# EAGLE library part FM22L16 (library ramtron-2)
NVRAM 256k x 16 or 512k x 8
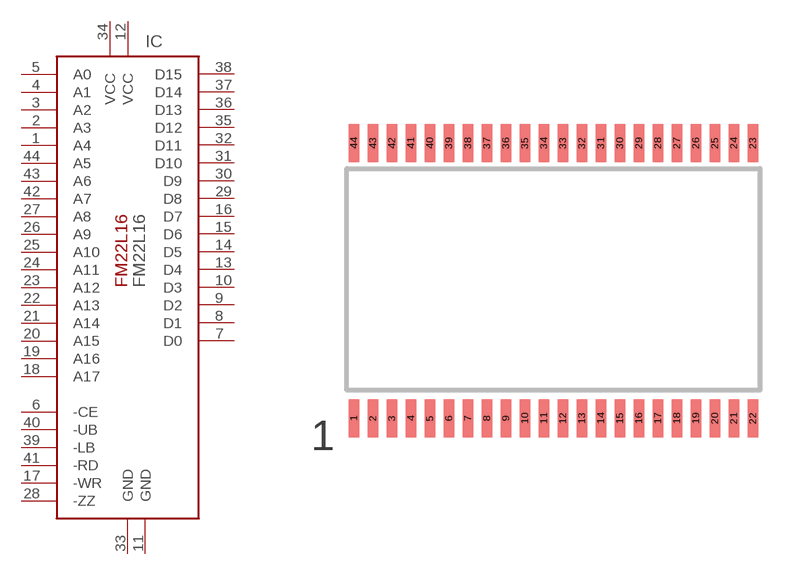
[diagram p3: symbol with the pads of TSOPII-44; footprint TSOPII-44]

Designator prefix IC

## FM22L16-TG  [TSOPII-44]
1  A4  in
2  A3  in
3  A2  in
4  A1  in
5  A0  in
6  -CE  in
7  D0
8  D1
9  D2
10  D3
11  GND  pwr
12  VCC  pwr
13  D4
14  D5
15  D6
16  D7
17  -WR  in
18  A17  in
19  A16  in
20  A15  in
21  A14  in
22  A13  in
23  A12  in
24  A11  in
25  A10  in
26  A9  in
27  A8  in
28  -ZZ  in
29  D8
30  D9
31  D10
32  D11
33  GND  pwr
34  VCC  pwr
35  D12
36  D13
37  D14
38  D15
39  -LB  in
40  -UB  in
41  -RD  in
42  A7  in
43  A6  in
44  A5  in

## Footprint TSOPII-44 (pad centres in mm)
TSOPII-44 pitch 0.8mm 18.4 x 11.75 pins 0.375mm pin width
smd 0.45 x 1.6: 1 -8.4,-5.8; 2 -7.6,-5.8; 3 -6.8,-5.8; 4 -6,-5.8; 5 -5.2,-5.8; 6 -4.4,-5.8; 7 -3.6,-5.8; 8 -2.8,-5.8; 9 -2,-5.8; 10 -1.2,-5.8; 11 -0.4,-5.8; 12 0.4,-5.8; 13 1.2,-5.8; 14 2,-5.8; 15 2.8,-5.8; 16 3.6,-5.8; 17 4.4,-5.8; 18 5.2,-5.8; 19 6,-5.8; 20 6.8,-5.8; 21 7.6,-5.8; 22 8.4,-5.8; 23 8.4,5.8; 24 7.6,5.8; 25 6.8,5.8; 26 6,5.8; 27 5.2,5.8; 28 4.4,5.8; 29 3.6,5.8; 30 2.8,5.8; 31 2,5.8; 32 1.2,5.8; 33 0.4,5.8; 34 -0.4,5.8; 35 -1.2,5.8; 36 -2,5.8; 37 -2.8,5.8; 38 -3.6,5.8; 39 -4.4,5.8; 40 -5.2,5.8; 41 -6,5.8; 42 -6.8,5.8; 43 -7.6,5.8; 44 -8.4,5.8